# EAGLE library part FINDER_66.82_RELAIS (library 1A-meinLib)
Serie 66 Leistungsrelais Typ 66.82, Finder
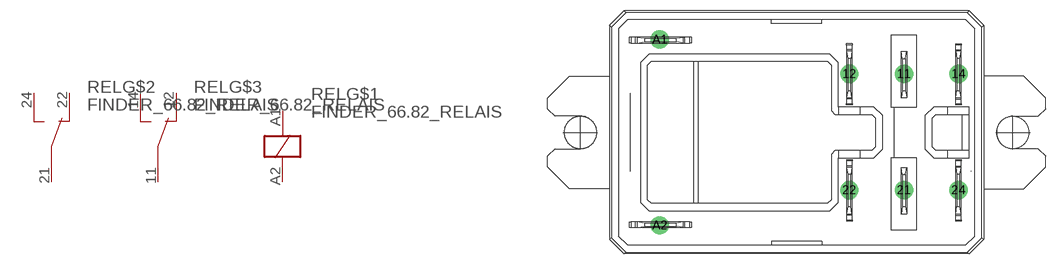
[diagram p255: symbol with the pads of FINDER_66.82; footprint FINDER_66.82]

Designator prefix REL; gates G$1=RELAIS-SPULE G$2=RELAIS-UMSCHALTER G$3=RELAIS-UMSCHALTER

## FINDER_66.82_RELAIS  [FINDER_66.82]
11  G$3:COM
12  G$3:NC
14  G$3:NO
21  G$2:COM
22  G$2:NC
24  G$2:NO
A1  G$1:A1  pas
A2  G$1:A2  pas

## Footprint FINDER_66.82 (pad centres in mm)
Serie 66 Leistungsrelais Typ 66.82, Finder
drill 1.2 pad 2.54 round: 11 44.5,8.06; 12 37,8.06; 14 52,8.06; 21 44.5,-7.94; 22 37,-7.94; 24 52,-7.94
drill 1.4 pad 2.54 round: A1 10.94,12.8; A2 10.94,-12.8
hole 4.4 at 0,0
hole 4.4 at 59.487,0